# Altium integrated library RP2040.IntLib: 1 symbol
Pins are listed as number, name and electrical type; pins without a type are passive.

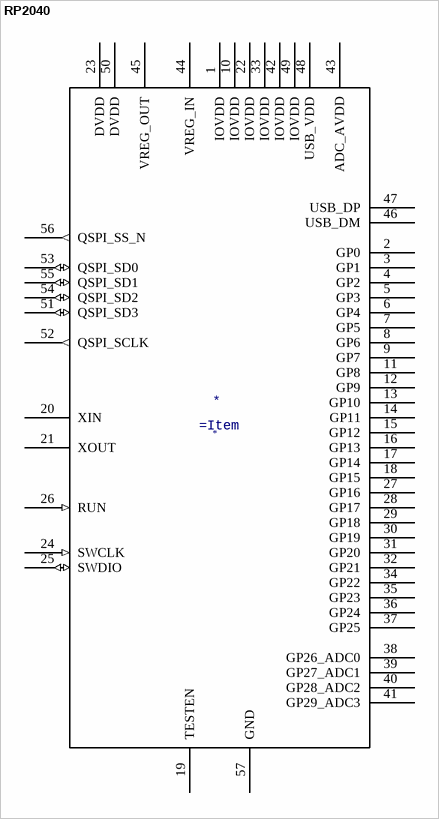
[diagram p0: symbol RP2040]

## RP2040
designator *
footprint QFN-56
pins: 1 IOVDD (power), 2 GP0, 3 GP1, 4 GP2, 5 GP3, 6 GP4, 7 GP5, 8 GP6, 9 GP7, 10 IOVDD (power), 11 GP8, 12 GP9, 13 GP10, 14 GP11, 15 GP12, 16 GP13, 17 GP14, 18 GP15, 19 TESTEN, 20 XIN, 21 XOUT, 22 IOVDD (power), 23 DVDD (power), 24 SWCLK (in), 25 SWDIO (io), 26 RUN (in), 27 GP16, 28 GP17, 29 GP18, 30 GP19, 31 GP20, 32 GP21, 33 IOVDD (power), 34 GP22, 35 GP23, 36 GP24, 37 GP25, 38 GP26_ADC0, 39 GP27_ADC1, 40 GP28_ADC2, 41 GP29_ADC3, 42 IOVDD (power), 43 ADC_AVDD (power), 44 VREG_IN (power), 45 VREG_OUT (power), 46 USB_DM, 47 USB_DP, 48 USB_VDD (power), 49 IOVDD (power), 50 DVDD (power), 51 QSPI_SD3 (io), 52 QSPI_SCLK (out), 53 QSPI_SD0 (io), 54 QSPI_SD2 (io), 55 QSPI_SD1 (io), 56 QSPI_SS_N (out), 57 GND (power)